# Altium footprint library 接口.PCBLIB: 266 footprints (part 1 of 17)
Each footprint in its own frame and in the unit in brackets; x right, y up, seen from the top. Pads: shape width x height; smd on the part's side, far side on the other; paste and mask are expansions set on the pad; w line width, h text height; cw(c..) or ccw(c..) is an arc to the next point about the centre after c.
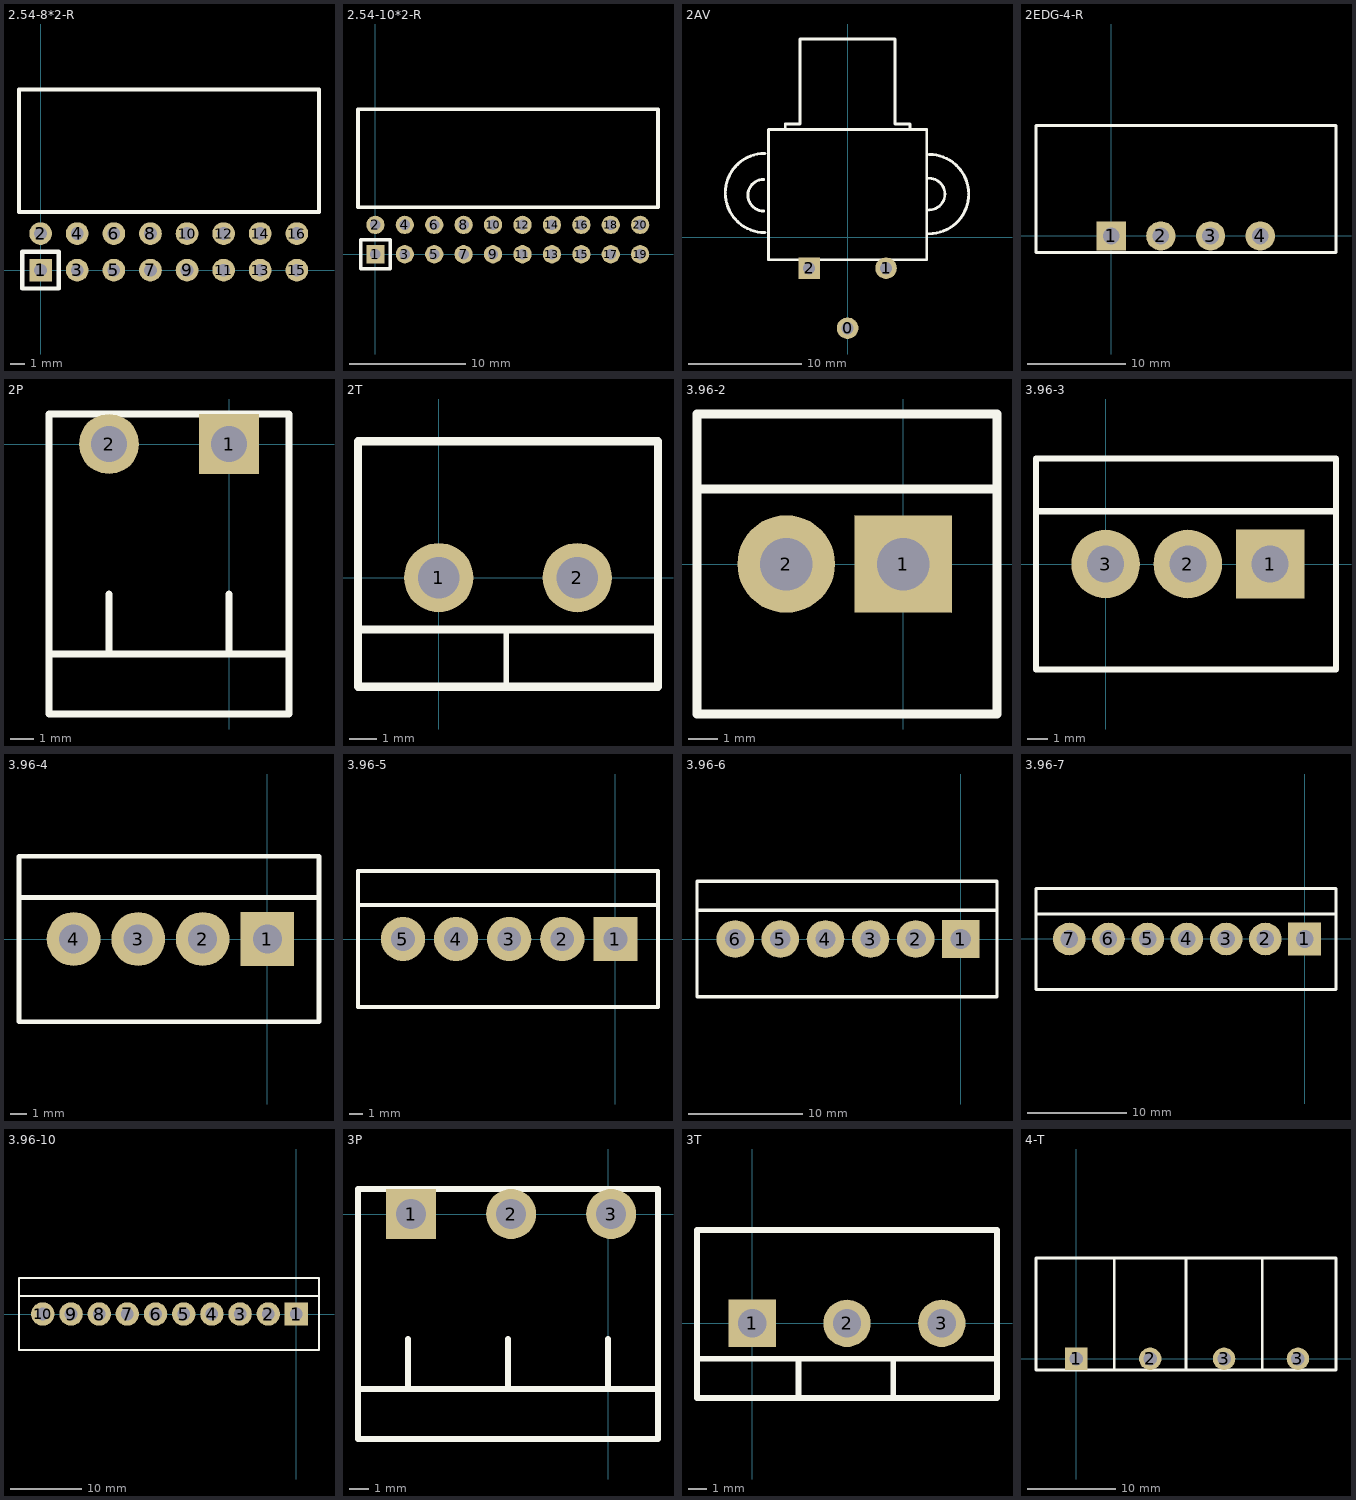
[diagram p0: the footprints below, top view; thin cyan lines are the x and y axes]

## 2.54-8*2-R [mil]
height 196.85
pads (16):
  rect 62x62 hole 35: 1(0,0)
  round 62 hole 35: 2(0,100) 3(100,0) 4(100,100) 5(200,0) 6(200,100) 7(300,0) 8(300,100) 9(400,0) 10(400,100) 11(500,0) 12(500,100) 13(600,0) 14(600,100) 15(700,0) 16(700,100)
TopOverlay:
  lines w12: -59.06,159.06 760.63,159.06 ; -59.06,493.7 760.63,493.7 ; -50,-50 -50,50 50,50 50,-50 -50,-50
  lines w12.01: -59.06,159.06 -59.06,493.7 ; 760.63,159.06 760.63,493.7

## 2.54-10*2-R [mil]
height 196.85
pads (20):
  rect 62x62 hole 35: 1(0,0)
  round 62 hole 35: 2(0,100) 3(100,0) 4(100,100) 5(200,0) 6(200,100) 7(300,0) 8(300,100) 9(400,0) 10(400,100) 11(500,0) 12(500,100) 13(600,0) 14(600,100) 15(700,0) 16(700,100) 17(800,0) 18(800,100) 19(900,0) 20(900,100)
TopOverlay:
  lines w12: -59.06,159.06 960.63,159.06 ; -59.06,493.7 960.63,493.7 ; -50,-50 50,-50 50,50 -50,50 -50,-50
  lines w12.01: -59.06,159.06 -59.06,493.7 ; 960.63,159.06 960.63,493.7

## 2AV [mm]
pads (3):
  round 1.905 hole 1.067: 0(0,-8.05) 1(3.4,-2.75)
  rect 1.905x1.905 hole 1.067: 2(-3.4,-2.75)
TopOverlay:
  lines w0.254: -7.4,2.3 cw(c-7.4,3.7) -7.4,5.1 ; -7.3,0.4 cw(c-7.3,3.9) -7.3,7.4 ; -5.5,9.5 -5.5,10 -4.2,10 -4.2,17.5 4.2,17.5 4.2,10 5.5,10 5.5,9.5 ; 7.2,0.3 ccw(c7.2,3.8) 7.2,7.3 ; 7.2,2.4 ccw(c7.2,3.8) 7.2,5.2 ; -7,-2 -7,9.5 7,9.5 7,-2 -7,-2

## 2EDG-4-R [mm]
height 8.3
pads (4):
  rect 3x3 hole 1.7: 1(0,0)
  round 3 hole 1.7: 2(5.08,0) 3(10.16,0) 4(15.24,0)
TopOverlay:
  lines w0.305: -7.68,-1.7 -7.68,11.3 22.98,11.3 22.98,-1.7 -7.68,-1.7

## 2P [mil]
pads (2):
  rect 100x100 hole 60: 1(0,0)
  round 100 hole 60: 2(-200,0)
TopOverlay:
  lines w12: -300,-350 100,-350 ; -200,-350 -200,-250 ; 0,-350 0,-250 ; -300,-450 -300,50 100,50 100,-450 -300,-450

## 2T [mil]
pads (2):
  round 100 hole 60: 1(0,0) 2(200,0)
TopOverlay:
  lines w8: 97.64,-150 97.64,-75
  lines w12: -116.53,-74.8 316.54,-74.8 ; 314.96,-157.48 -116.53,-157.48 -116.53,196.85 316.54,196.85 316.54,-157.48

## 3.96-2 [mil]
pads (2):
  rect 130x130 hole 70: 1(0,0)
  round 130 hole 70: 2(-156,0)
TopOverlay:
  lines w12: -275,100 125,100 ; -275,-200 -275,200 125,200 125,-200 -275,-200

## 3.96-3 [mil]
pads (3):
  rect 130x130 hole 70: 1(312,0)
  round 130 hole 70: 2(156,0) 3(0,0)
TopOverlay:
  lines w12: -132,100 437,100 ; -132,-200 -132,200 437,200 437,-200 -132,-200

## 3.96-4 [mil]
pads (4):
  rect 130x130 hole 70: 1(0,0)
  round 130 hole 70: 2(-156,0) 3(-312,0) 4(-468,0)
TopOverlay:
  lines w12: -600,100 125,100 ; -600,-200 -600,200 125,200 125,-200 -600,-200

## 3.96-5 [mil]
pads (5):
  rect 130x130 hole 70: 1(0,0)
  round 130 hole 70: 2(-156,0) 3(-312,0) 4(-468,0) 5(-624,0)
TopOverlay:
  lines w12: -756,100 125,100 ; -756,-200 -756,200 125,200 125,-200 -756,-200

## 3.96-6 [mil]
pads (6):
  rect 130x130 hole 70: 1(0,0)
  round 130 hole 70: 2(-156,0) 3(-312,0) 4(-468,0) 5(-624,0) 6(-780,0)
TopOverlay:
  lines w12: -912,100 125,100 ; -912,-200 125,-200 125,200 -912,200 -912,-200

## 3.96-7 [mil]
pads (7):
  rect 130x130 hole 70: 1(0,0)
  round 130 hole 70: 2(-156,0) 3(-312,0) 4(-468,0) 5(-624,0) 6(-780,0) 7(-936,0)
TopOverlay:
  lines w12: -1068,100 124,100 ; -1068,-200 -1068,200 125,200 125,-200 -1068,-200

## 3.96-10 [mil]
pads (10):
  rect 130x130 hole 70: 1(0,0)
  round 130 hole 70: 2(-156,0) 3(-312,0) 4(-468,0) 5(-624,0) 6(-780,0) 7(-936,0) 8(-1092,0) 9(-1248,0) 10(-1404,0)
TopOverlay:
  lines w12: -1536,100 125,100 ; -1536,-200 -1536,200 125,200 125,-200 -1536,-200

## 3P [mil]
pads (3):
  rect 100x100 hole 60: 1(-393.7,0)
  round 100 hole 60: 2(-193.7,0) 3(6.3,0)
TopOverlay:
  lines w12: -500,-350 100,-350 ; -400,-350 -400,-250 ; -200,-350 -200,-250 ; 0,-350 0,-250 ; -500,-450 -500,50 100,50 100,-450 -500,-450

## 3T [mil]
pads (3):
  rect 100x100 hole 60: 1(0,0)
  round 100 hole 60: 2(200,0) 3(400,0)
TopOverlay:
  lines w12: -115,-75 516.53,-74.8 ; 83.47,-157.48 514.96,-157.48 ; 83.47,196.85 516.53,196.85 516.53,-157.48 ; 97.64,-150 97.64,-75 ; 297.64,-150 297.64,-75 ; 314.96,-157.48 -116.53,-157.48 -116.53,196.85 316.54,196.85

## 4-T [mil]
pads (4):
  rect 100x100 hole 60: 1(0,0)
  round 100 hole 60: 2(330,0) 3(660,0) 3(990,0)
TopOverlay:
  lines w12: 170,-50 170,450 ; 490,-50 490,450 ; 830,-50 830,450 ; -180,-50 1160,-50 1160,450 -180,450 -180,-50